# Altium schematic symbol library ADE7878.SchLib: 1 symbol
Pins are listed as number, name and electrical type; pins without a type are passive.

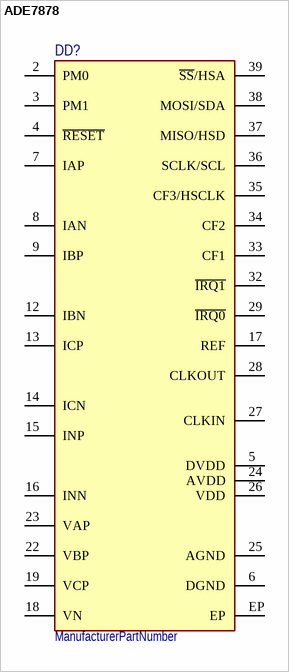
[diagram p0: symbol ADE7878]

## ADE7878
designator DD?  (value not drawn)
ManufacturerPartNumber: ManufacturerPartNumber
pins: 2 PM0, 3 PM1, 4 ~{RESET}, 5 DVDD, 6 DGND, 7 IAP, 8 IAN, 9 IBP, 12 IBN, 13 ICP, 14 ICN, 15 INP, 16 INN, 17 REF, 18 VN, 19 VCP, 22 VBP, 23 VAP, 24 AVDD, 25 AGND, 26 VDD, 27 CLKIN, 28 CLKOUT, 29 ~{IRQ0}, 32 ~{IRQ1}, 33 CF1, 34 CF2, 35 CF3/HSCLK, 36 SCLK/SCL, 37 MISO/HSD, 38 MOSI/SDA, 39 ~{SS}/HSA, EP